# Altium schematic symbol library SWTICH.SCHLIB: 12 symbols
Pins are listed as number, name and electrical type; pins without a type are passive.

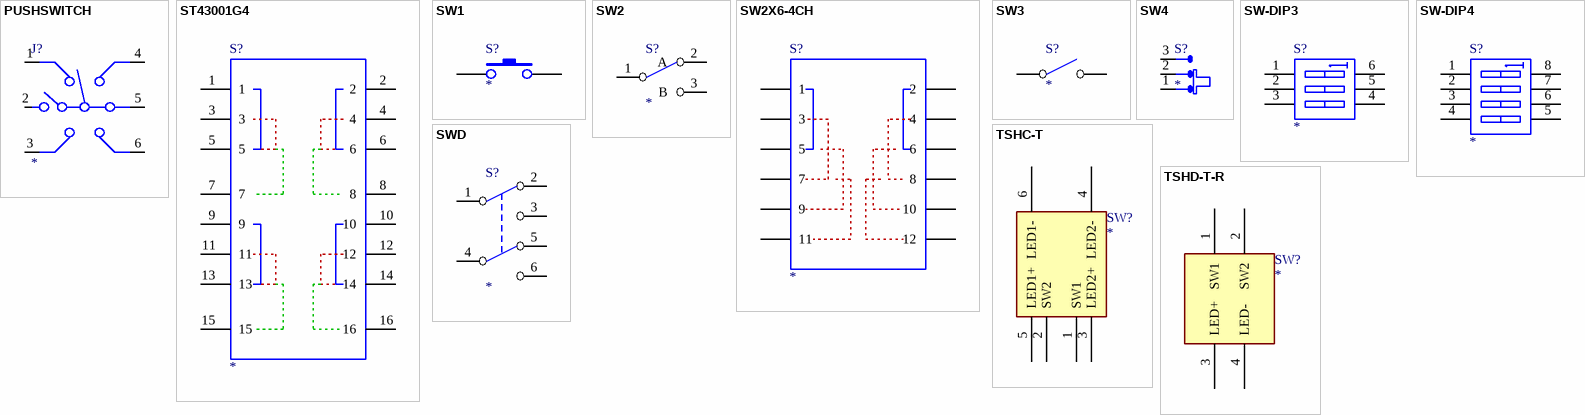
[diagram p0: symbols PUSHSWITCH to TSHD-T-R]

## PUSHSWITCH
designator J?
pins: 1 VOLUME+, 2 ON/OFF_PLAY/PLUSE, 3 TRACK-, 4 TRACK+, 5 BAT+, 6 VOLUME-

## ST43001G4
designator S?
footprint ST43001G4
pins: 1, 2, 3, 4, 5, 6, 7, 8, 9, 10, 11, 12, 13, 14, 15, 16

## SW1
designator S?
footprint SWA
footprint IDSW
footprint IDSW2
footprint IDSW-S
pins: 1, 2

## SW2
designator S?
footprint SWB
footprint ENCODE
footprint SW-DCH
pins: 1 COMMON, 2 A, 3 B

## SW2X6-4CH
designator S?
footprint DCH-SW
pins: 1, 2, 3, 4, 5, 6, 7, 8, 9, 10, 11, 12

## SW3
designator S?
footprint SWA
footprint BUSW1
footprint BUSW2
footprint POWER SW
pins: 1 COMMON, 2 NO

## SW4
designator S?
footprint SWA
footprint BUSW1
footprint BUSW2
footprint POWER SW
pins: 1 10, 2 11, 3 12

## SW-DIP3
designator S?
DIP Switch
footprint SW-DIP3
pins: 1 A1, 2 A2, 3 A3, 4 A4, 5 B4, 6 B3

## SW-DIP4
designator S?
DIP Switch
footprint SW-DIP4
pins: 1 A1, 2 A2, 3 A3, 4 A4, 5 B4, 6 B3, 7 B2, 8 B1

## SWD
designator S?
footprint SW-DCH
pins: 1, 2 NC1, 3 NO1, 4 COMMON2, 5 NC2, 6 NO2

## TSHC-T
designator SW?
footprint TSHC-T
pins: 1 SW1, 2 SW2, 3 LED2+, 4 LED2-, 5 LED1+, 6 LED1-
2 alternate drawings of the same symbol

## TSHD-T-R
designator SW?
footprint TSHD-T-R
pins: 1 SW1, 2 SW2, 3 LED+, 4 LED-
2 alternate drawings of the same symbol